# EAGLE library part AN32183A (library talons)
AN32183A 9x9 Dots Matrix LED Driver IC Features 9 x 9 LED Matrix Driver LED Selectable Maximum Current LED Music Synchonizing Function I2C Interface (Standard Mode, Fast Mode and Fast mode Plus) (4 Slace address selectable) 24 pin Shrink Small Outline Package (SSOP Type) Description AN32183A is a 81 Dots Matrix LED Driver. It can drive up to 27 RGB LEDs. Applications Mobile Phone Smart Phone PCs Game Consoles Home Appliances etc. Links Page <http://industrial.panasonic.com/www-cgi/jvcr13pz.cgi?E+SC+3+CCA7002+AN32183A+7+WW>
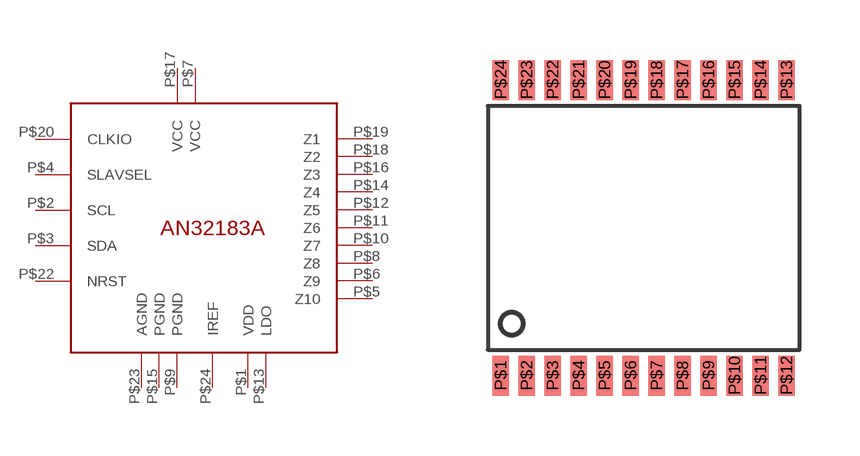
[diagram p8: symbol with the pads of SSOP024-P; footprint SSOP024-P]

Designator prefix -

## AN32183A  [SSOP024-P]
P$1  VDD  pwr
P$2  SCL  in
P$3  SDA
P$4  SLAVSEL  in
P$5  Z10  out
P$6  Z9  out
P$7  VCC  pwr
P$8  Z8  out
P$9  PGND  pwr
P$10  Z7  out
P$11  Z6  out
P$12  Z5  out
P$13  LDO  out
P$14  Z4  out
P$15  PGND  pwr
P$16  Z3  out
P$17  VCC  pwr
P$18  Z2  out
P$19  Z1  out
P$20  CLKIO
P$22  NRST  in
P$23  AGND  pwr
P$24  IREF  out

## Footprint SSOP024-P (pad centres in mm)
smd 0.42 x 1: P$1 -3.575,-3.7; P$2 -2.925,-3.7; P$3 -2.275,-3.7; P$4 -1.625,-3.7; P$5 -0.975,-3.7; P$6 -0.325,-3.7; P$7 0.325,-3.7; P$8 0.975,-3.7; P$9 1.625,-3.7; P$10 2.275,-3.7; P$11 2.925,-3.7; P$12 3.575,-3.7; P$13 3.575,3.7; P$14 2.925,3.7; P$15 2.275,3.7; P$16 1.625,3.7; P$17 0.975,3.7; P$18 0.325,3.7; P$19 -0.325,3.7; P$20 -0.975,3.7; P$21 -1.625,3.7; P$22 -2.275,3.7; P$23 -2.925,3.7; P$24 -3.575,3.7